# Altium footprint library LCD2004 footprint.PcbLib: 1 footprints
Each footprint in its own frame and in the unit in brackets; x right, y up, seen from the top. Pads: shape width x height; smd on the part's side, far side on the other; paste and mask are expansions set on the pad; w line width, h text height; cw(c..) or ccw(c..) is an arc to the next point about the centre after c.
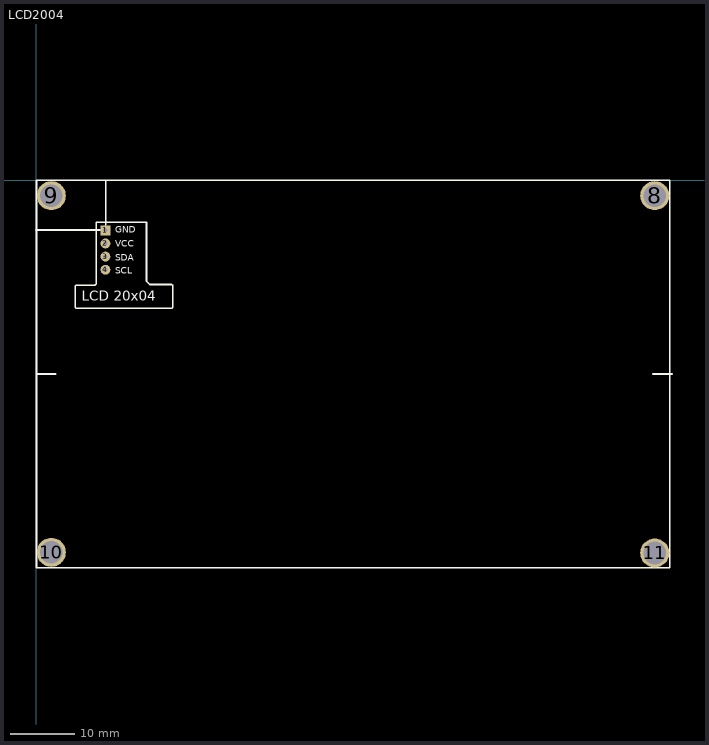
[diagram p0: the footprint, top view; thin cyan lines are the x and y axes]

## LCD2004 [mm]
height 11.3
pads (8):
  rect 1.524x1.524 hole 0.7 square: 1(10.678,-7.766)
  round 1.524 hole 0.7 square: 2(10.678,-9.798) 3(10.678,-11.83) 4(10.678,-13.862)
  round 4.5 hole 3.5: 8(95.7,-2.4) 9(2.3,-2.4) 10(2.3,-57.6) 11(95.7,-57.7)
Top Overlay:
  lines w0.254: -0.1,-7.7 9.9,-7.7 ; 0,-30 3,-30 ; 10.7,-7 10.7,0 ; 95.4,-30 98.4,-30 ; 0,-60 0,0 98,0 98,-60 0,-60 ; 5.979,-19.704 5.979,-16.402 6.106,-16.275 9.027,-16.275 9.281,-16.021 9.281,-6.496 17.028,-6.496 17.028,-15.64 17.536,-16.148 20.965,-16.148 21.092,-16.275 21.092,-19.704 20.965,-19.831 6.106,-19.831 5.979,-19.704
  text "LCD 20x04" at 6.995,-18.688 h1.52
  text "GND" at 12.202,-8.147 h1
  text "VCC" at 12.202,-10.306 h1
  text "SDA" at 12.202,-12.465 h1
  text "SCL" at 12.202,-14.497 h1
3D body "LCD 20x4 Display (Headers)V2.STEP": height 26.6, standoff 6, extent -0.2,-60 97.8,0